# EAGLE library part CY8C3866LTI-030 (library Cypress_By_element14_Batch_1)
Programmable System-on-Chip
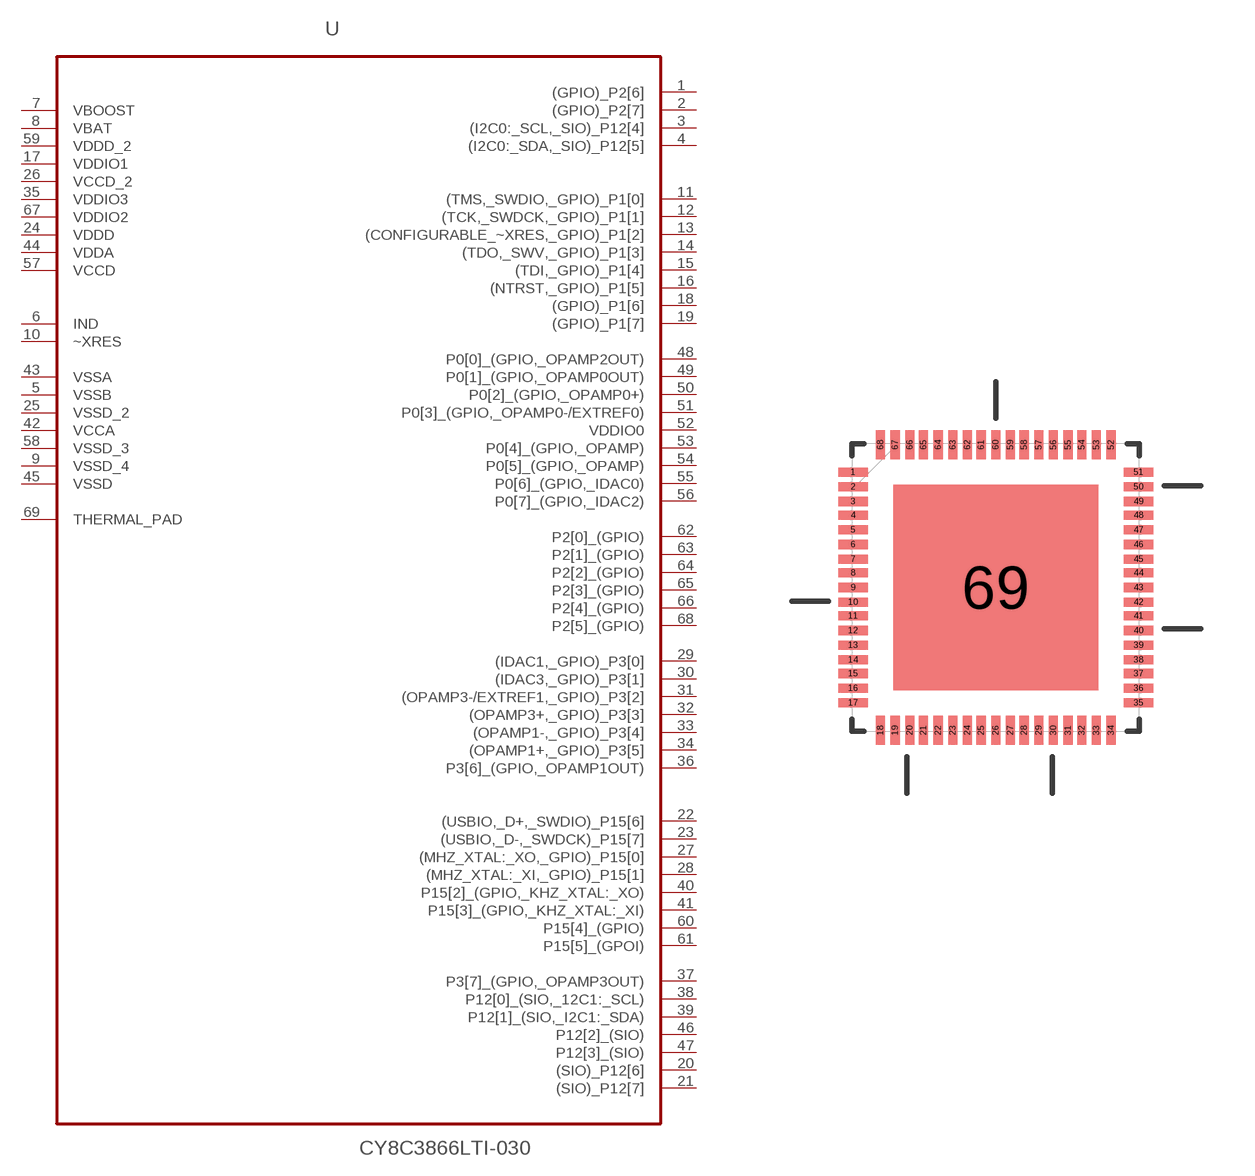
[diagram p19: symbol with the pads of QFN40P800X800X100-69N; footprint QFN40P800X800X100-69N]

Designator prefix U

## CY8C3866LTI-030 (DESCRIPTION: Programmable System-on-Chip; MPN: CY8C3866LTI-030; OC_FARNELL: -; OC_NEWARK: 14T2626; PACKAGE: VFQFN-68; SUPPLIER: CYPRESS SEMICONDUCTOR)  [QFN40P800X800X100-69N]
1  (GPIO)_P2[6]
2  (GPIO)_P2[7]
3  (I2C0:_SCL,_SIO)_P12[4]
4  (I2C0:_SDA,_SIO)_P12[5]
5  VSSB  pas
6  IND
7  VBOOST  in
8  VBAT  in
9  VSSD_4  pas
10  ~XRES
11  (TMS,_SWDIO,_GPIO)_P1[0]
12  (TCK,_SWDCK,_GPIO)_P1[1]
13  (CONFIGURABLE_~XRES,_GPIO)_P1[2]
14  (TDO,_SWV,_GPIO)_P1[3]
15  (TDI,_GPIO)_P1[4]
16  (NTRST,_GPIO)_P1[5]
17  VDDIO1
18  (GPIO)_P1[6]
19  (GPIO)_P1[7]
20  (SIO)_P12[6]
21  (SIO)_P12[7]
22  (USBIO,_D+,_SWDIO)_P15[6]
23  (USBIO,_D-,_SWDCK)_P15[7]
24  VDDD  pwr
25  VSSD_2  pas
26  VCCD_2  pwr
27  (MHZ_XTAL:_XO,_GPIO)_P15[0]
28  (MHZ_XTAL:_XI,_GPIO)_P15[1]
29  (IDAC1,_GPIO)_P3[0]
30  (IDAC3,_GPIO)_P3[1]
31  (OPAMP3-/EXTREF1,_GPIO)_P3[2]
32  (OPAMP3+,_GPIO)_P3[3]
33  (OPAMP1-,_GPIO)_P3[4]
34  (OPAMP1+,_GPIO)_P3[5]
35  VDDIO3  pwr
36  P3[6]_(GPIO,_OPAMP1OUT)
37  P3[7]_(GPIO,_OPAMP3OUT)
38  P12[0]_(SIO,_12C1:_SCL)
39  P12[1]_(SIO,_I2C1:_SDA)
40  P15[2]_(GPIO,_KHZ_XTAL:_XO)
41  P15[3]_(GPIO,_KHZ_XTAL:_XI)
42  VCCA  pwr
43  VSSA  pas
44  VDDA  pwr
45  VSSD  pas
46  P12[2]_(SIO)
47  P12[3]_(SIO)
48  P0[0]_(GPIO,_OPAMP2OUT)
49  P0[1]_(GPIO,_OPAMP0OUT)
50  P0[2]_(GPIO,_OPAMP0+)
51  P0[3]_(GPIO,_OPAMP0-/EXTREF0)
52  VDDIO0
53  P0[4]_(GPIO,_OPAMP)
54  P0[5]_(GPIO,_OPAMP)
55  P0[6]_(GPIO,_IDAC0)
56  P0[7]_(GPIO,_IDAC2)
57  VCCD  pwr
58  VSSD_3  pas
59  VDDD_2  pwr
60  P15[4]_(GPIO)
61  P15[5]_(GPOI)
62  P2[0]_(GPIO)
63  P2[1]_(GPIO)
64  P2[2]_(GPIO)
65  P2[3]_(GPIO)
66  P2[4]_(GPIO)
67  VDDIO2  pwr
68  P2[5]_(GPIO)
69  THERMAL_PAD  in

## Footprint QFN40P800X800X100-69N (pad centres in mm)
smd 0.813 x 0.254: 1 -3.962,3.2; 2 -3.962,2.794; 3 -3.962,2.388; 4 -3.962,2.007; 5 -3.962,1.6; 6 -3.962,1.194; 7 -3.962,0.787; 8 -3.962,0.406; 9 -3.962,0; 10 -3.962,-0.406; 11 -3.962,-0.787; 12 -3.962,-1.194; 13 -3.962,-1.6; 14 -3.962,-2.007; 15 -3.962,-2.388; 16 -3.962,-2.794; 17 -3.962,-3.2; 35 3.962,-3.2; 36 3.962,-2.794; 37 3.962,-2.388; 38 3.962,-2.007; 39 3.962,-1.6; 40 3.962,-1.194; 41 3.962,-0.787; 42 3.962,-0.406; 43 3.962,0; 44 3.962,0.406; 45 3.962,0.787; 46 3.962,1.194; 47 3.962,1.6; 48 3.962,2.007; 49 3.962,2.388; 50 3.962,2.794; 51 3.962,3.2
smd 0.254 x 0.813: 18 -3.2,-3.962; 19 -2.794,-3.962; 20 -2.388,-3.962; 21 -2.007,-3.962; 22 -1.6,-3.962; 23 -1.194,-3.962; 24 -0.787,-3.962; 25 -0.406,-3.962; 26 0,-3.962; 27 0.406,-3.962; 28 0.787,-3.962; 29 1.194,-3.962; 30 1.6,-3.962; 31 2.007,-3.962; 32 2.388,-3.962; 33 2.794,-3.962; 34 3.2,-3.962; 52 3.2,3.962; 53 2.794,3.962; 54 2.388,3.962; 55 2.007,3.962; 56 1.6,3.962; 57 1.194,3.962; 58 0.787,3.962; 59 0.406,3.962; 60 0,3.962; 61 -0.406,3.962; 62 -0.787,3.962; 63 -1.194,3.962; 64 -1.6,3.962; 65 -2.007,3.962; 66 -2.388,3.962; 67 -2.794,3.962; 68 -3.2,3.962
smd 5.69 x 5.69: 69 0,0